# Altium footprint library Fiducials.PcbLib: 4 footprints
Each footprint in its own frame and in the unit in brackets; x right, y up, seen from the top. Pads: shape width x height; smd on the part's side, far side on the other; paste and mask are expansions set on the pad; w line width, h text height; cw(c..) or ccw(c..) is an arc to the next point about the centre after c.
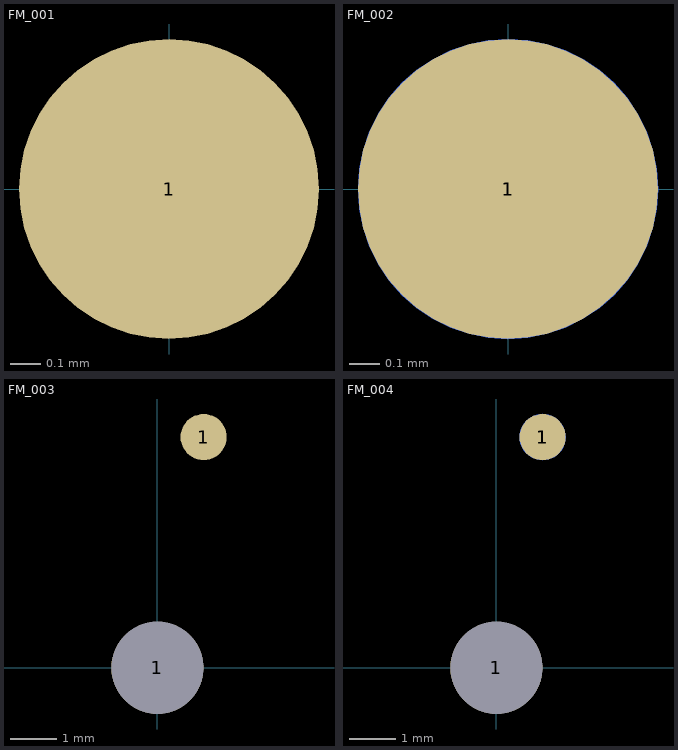
[diagram p0: the footprints below, top view; thin cyan lines are the x and y axes]

## FM_001 [mm]
pads (1):
  round 1 smd paste+0 mask+0.5: 1(0,0)

## FM_002 [mm]
pads (2):
  round 1 smd paste+0 mask+0.5: 1(0,0)
  round 1 smd far side paste+0 mask+0.5: 1(0,0)

## FM_003 [mm]
pads (2):
  round 2 hole 2 unplated: 1(0,0)
  round 1 smd paste+0 mask+0.5: 1(1,5)

## FM_004 [mm]
pads (3):
  round 2 hole 2 unplated: 1(0,0)
  round 1 smd paste+0 mask+0.5: 1(1,5)
  round 1 smd far side paste+0 mask+0.5: 1(1,5)